# Altium footprint library MD_PcbLib.PcbLib: 3 footprints
Each footprint in its own frame and in the unit in brackets; x right, y up, seen from the top. Pads: shape width x height; smd on the part's side, far side on the other; paste and mask are expansions set on the pad; w line width, h text height; cw(c..) or ccw(c..) is an arc to the next point about the centre after c.
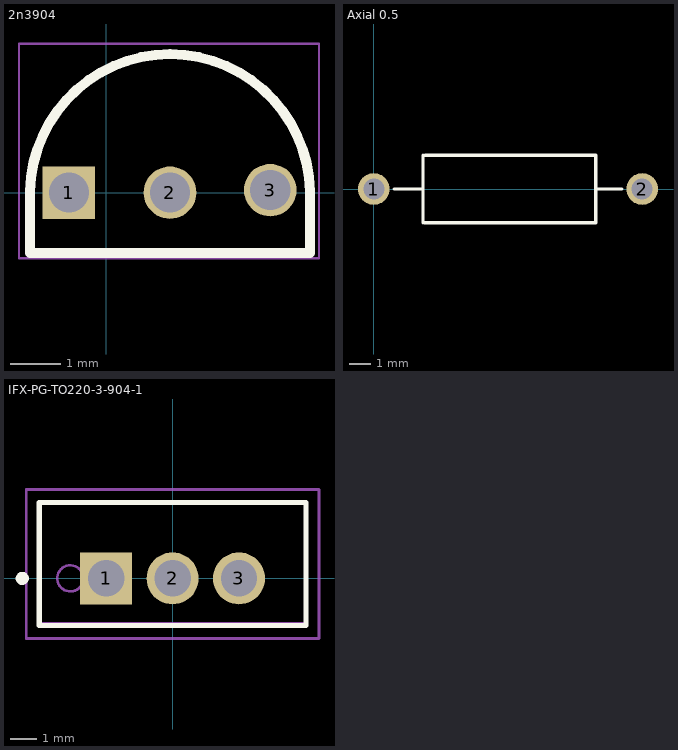
[diagram p0: the footprints below, top view; thin cyan lines are the x and y axes]

## 2n3904 [mm] "TO, 3-Leads, Body Dia 4.79mm, Pitch 1.27mm"
height 5.33
pads (3):
  rect 1.05x1.05 hole 0.8 mask+0.05: 1(-0.75,0)
  round 1.05 hole 0.8 mask+0.05: 2(1.27,0) 3(3.275,0.05)
Top Overlay:
  lines w0.2: -1.53,-1.21 -1.53,0.025 ; -1.53,0.023 cw(c1.27,-0.03) 4.069,0.023 ; -1.5,-1.21 4.05,-1.21 ; 4.07,-1.21 4.07,-0.025
Top Courtyard:
  lines w0.05: -1.75,-1.31 4.25,-1.31 4.25,2.975 -1.75,2.975 -1.75,-1.31

## Axial 0.5 [mm]
pads (2):
  round 1.5 hole 1: 1(0,0) 2(12.7,0)
Top Overlay:
  lines w0.15: 0.95,0 2.325,0 ; 2.325,-1.6 2.325,0 ; 2.325,1.6 2.325,0 ; 2.4,-1.6 10.5,-1.6 10.5,1.6 2.425,1.6 ; 10.525,0 11.75,0

## IFX-PG-TO220-3-904-1 [mm] "TO,flange mount,2.54 mm pitch, 3 pin, 10.16 mm L X 4.57 mm W X 20.56 mm H body"
height 20.56
pads (3):
  rect 1.99x1.99 hole 1.39 paste-2539.97 mask+0: 1(-2.54,0)
  round 1.99 hole 1.39 paste-2539.97 mask+0: 2(0,0) 3(2.54,0)
Top Overlay:
  circle w0.25: c-5.75,0 r0.125
  lines w0.2: -5.1,-1.8 -5.1,2.9 5.1,2.9 5.1,-1.8 -5.1,-1.8
  text ".DESIGNATOR" at -0.61,4.013 h1.2
Mechanical 13:
  circle w0.1: c-3.912,0 r0.5
  lines w0.1: -5.08,-1.71 -5.08,2.86 5.08,2.86 5.08,-1.71 -5.08,-1.71
Mechanical 15:
  lines w0.1: -0.5,0 0.5,0 ; 0,-0.5 0,0.5 ; -5.6,-2.3 -5.6,3.4 5.6,3.4 5.6,-2.3 -5.6,-2.3
3D body "PG-TO220-3-904_Z8B00198139_V06_3D.stp": height 19.84, standoff -10.77, extent -5.156,-1.72 5.156,2.86